# EAGLE library part LCD1041 (library X_LDC1041)
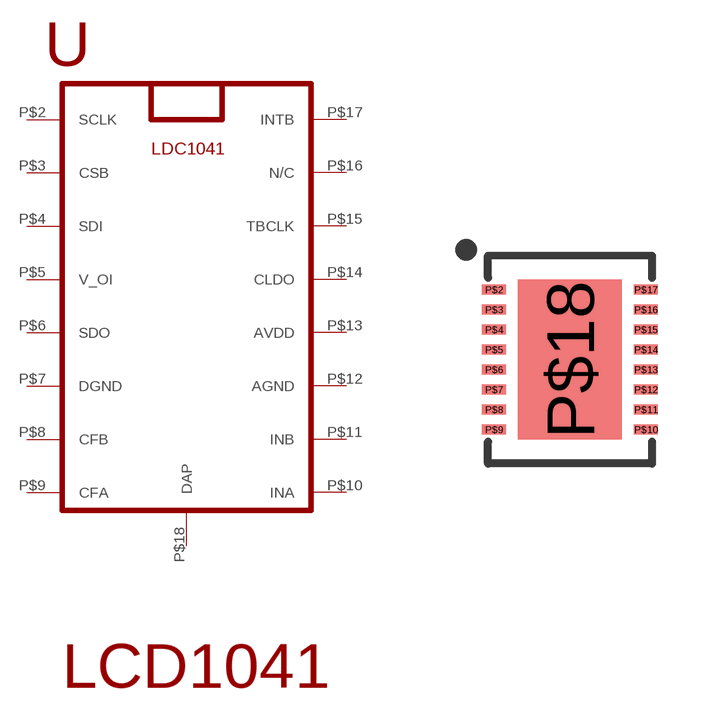
[diagram p0: symbol with the pads of WSON16; footprint WSON16]

Designator prefix -

## LCD1041  [WSON16]
P$2  SCLK  out
P$3  CSB
P$4  SDI
P$5  V_OI
P$6  SDO
P$7  DGND
P$8  CFB
P$9  CFA
P$10  INA
P$11  INB
P$12  AGND
P$13  AVDD
P$14  CLDO
P$15  TBCLK
P$16  N/C
P$17  INTB
P$18  DAP

## Footprint WSON16 (pad centres in mm)
smd 0.6 x 0.25: P$2 -3.2,-0.25; P$3 -3.2,-0.75; P$4 -3.2,-1.25; P$5 -3.2,-1.75; P$6 -3.2,-2.25; P$7 -3.2,-2.75; P$8 -3.2,-3.25; P$9 -3.2,-3.75; P$10 0.6,-3.75; P$11 0.6,-3.25; P$12 0.6,-2.75; P$13 0.6,-2.25; P$14 0.6,-1.75; P$15 0.6,-1.25; P$16 0.6,-0.75; P$17 0.6,-0.25
smd 2.6 x 4: P$18 -1.3,-2